# Altium schematic symbol library EMI Shields.SchLib: 1 symbol
Pins are listed as number, name and electrical type; pins without a type are passive.

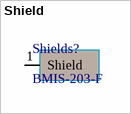
[diagram p0: symbol Shield]

## Shield
designator Shields?, comment BMIS-203-F
Value: BMIS-203-F
footprint BMIS-203-F 26.1X26.1mm (BMIS-203-C  26.1mm)
pins: 1 Shield